# Altium footprint library thermostat.PcbLib: 95 footprints (part 1 of 6)
Each footprint in its own frame and in the unit in brackets; x right, y up, seen from the top. Pads: shape width x height; smd on the part's side, far side on the other; paste and mask are expansions set on the pad; w line width, h text height; cw(c..) or ccw(c..) is an arc to the next point about the centre after c.
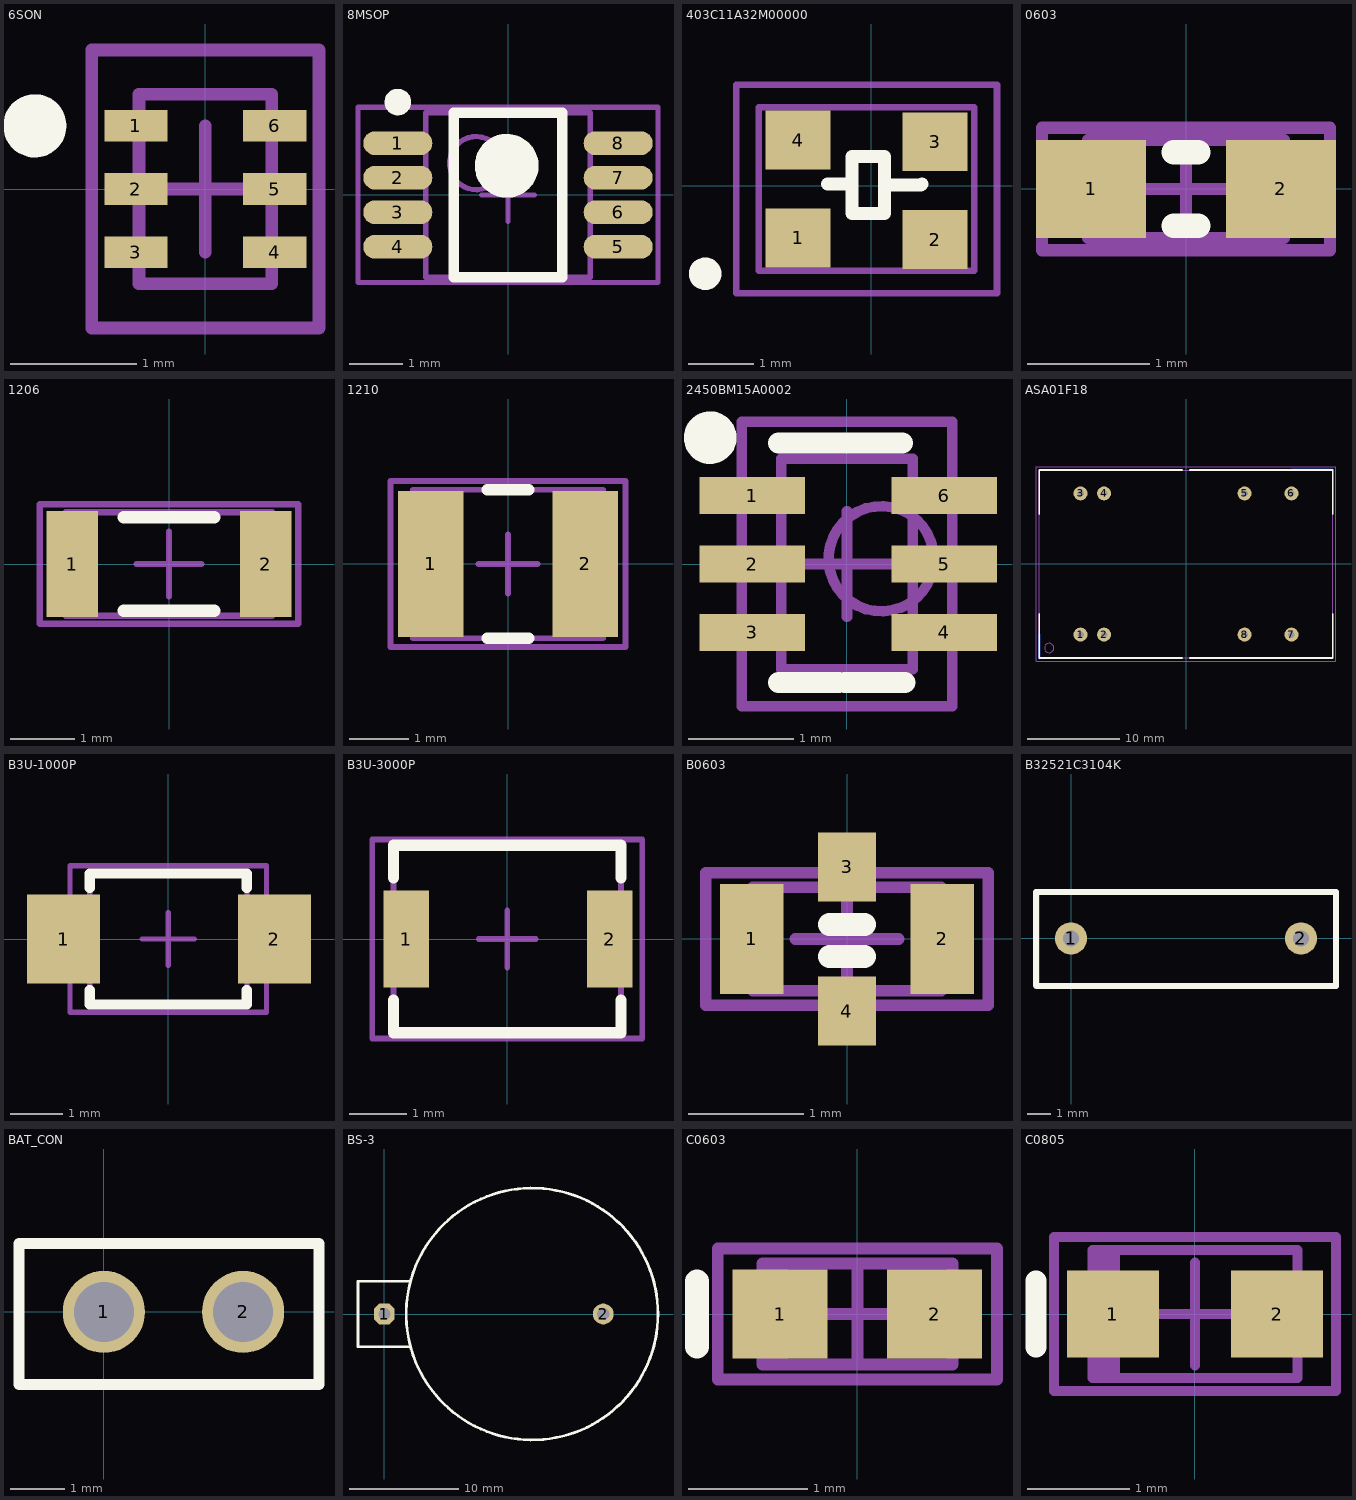
[diagram p0: the footprints below, top view; thin cyan lines are the x and y axes]

## 6SON [mm] "IC DCDC CONV STP-DN SYNC LP 6SON"
height 0.6
pads (6):
  rect 0.5x0.25 smd: 1(-0.55,0.5) 2(-0.55,0) 3(-0.55,-0.5) 4(0.55,-0.5) 5(0.55,0) 6(0.55,0.5)
Top Overlay:
  circle w0.25: c-1.35,0.5 r0.125
Mechanical 13:
  lines w0.1: -0.525,-0.75 -0.525,0.75 0.525,0.75 0.525,-0.75 -0.525,-0.75
Mechanical 15:
  lines w0.1: -0.5,0 0.5,0 ; 0,-0.5 0,0.5 ; -0.9,-1.1 -0.9,1.1 0.9,1.1 0.9,-1.1 -0.9,-1.1
3D body: height 0.6, standoff 0.1, extent -0.525,-0.75 0.525,0.75

## 8MSOP [mm] "MSOP, 8-Leads, Body 3,1x3,1mm (max), Pitch 0,65mm, IPC High Density"
height 1.1
pads (8):
  oval 1.3x0.45 smd: 1(-2.075,0.975) 2(-2.075,0.325) 3(-2.075,-0.325) 4(-2.075,-0.975) 5(2.075,-0.975) 6(2.075,-0.325) 7(2.075,0.325) 8(2.075,0.975)
Top Overlay:
  circle w0.25: c-2.075,1.75 r0.125
  circle w0.6: c-0.025,0.55 r0.3
  lines w0.2: -1.025,-1.55 -1.025,1.55 1.025,1.55 1.025,-1.55 -1.025,-1.55
Mechanical 13:
  circle w0.1: c-0.6,0.6 r0.5
  lines w0.1: -1.55,-1.55 -1.55,1.55 1.55,1.55 1.55,-1.55 -1.55,-1.55
Mechanical 15:
  lines w0.1: -0.5,0 0.5,0 ; 0,-0.5 0,0.5 ; -2.825,-1.65 -2.825,1.65 2.825,1.65 2.825,-1.65 -2.825,-1.65
3D body: height 1.1, standoff 0.1, extent -1.55,-1.55 1.55,1.55

## 403C11A32M00000 [mm] "CRYSTAL 32MHZ 10PF SMD"
height 0.8
pads (4):
  rect 1x0.9 smd: 1(-1.125,-0.8) 2(0.975,-0.825) 3(0.975,0.675) 4(-1.125,0.7)
Top Overlay:
  circle w0.25: c-2.55,-1.35 r0.125
  lines w0.2: -0.675,0.025 -0.325,0.025 ; 0.2,0.013 0.763,0.013 0.775,0.025 ; -0.3,-0.425 0.2,-0.425 0.2,0.45 -0.3,0.45 -0.3,-0.425
Mechanical 13:
  lines w0.1: -1.725,-1.3 1.575,-1.3 1.575,1.2 -1.725,1.2 -1.725,-1.3
Mechanical 15:
  lines w0.1: -2.075,-1.65 -2.075,1.55 1.925,1.55 1.925,-1.65 -2.075,-1.65
3D body: height 0.85, standoff 0.1, extent -1.7,-1.225 1.525,1.15

## 0603 [mm] "0603, 2-Leads, Body 1,6x0,8mm, IPC High Density"
height 0.5
pads (2):
  rect 0.9x0.8 smd: 1(-0.775,0) 2(0.775,0)
Top Overlay:
  lines w0.2: -0.1,-0.3 0.1,-0.3 ; -0.1,0.3 0.1,0.3
Mechanical 13:
  lines w0.1: -0.8,-0.4 0.8,-0.4 0.8,0.4 -0.8,0.4 -0.8,-0.4
Mechanical 15:
  lines w0.1: -0.4,0 0.4,0 ; 0,-0.4 0,0.4 ; -1.175,-0.5 1.175,-0.5 1.175,0.5 -1.175,0.5 -1.175,-0.5
3D body: height 0.5, standoff 0, extent -0.8,-0.4 0.8,0.4

## 1206 [mm] "1206, 2-Leads, Body 3,2x1,6mm, IPC High Density"
height 0.5
pads (2):
  rect 0.8x1.65 smd: 1(-1.5,0) 2(1.5,0)
Top Overlay:
  lines w0.2: -0.7,-0.725 0.7,-0.725 ; -0.7,0.725 0.7,0.725
Mechanical 13:
  lines w0.1: -1.6,-0.8 1.6,-0.8 1.6,0.8 -1.6,0.8 -1.6,-0.8
Mechanical 15:
  lines w0.1: -0.5,0 0.5,0 ; 0,-0.5 0,0.5 ; -2,-0.925 2,-0.925 2,0.925 -2,0.925 -2,-0.925
3D body: height 0.5, standoff 0, extent -1.6,-0.8 1.6,0.8

## 1210 [mm]
height 1.6
pads (2):
  rect 1.1x2.45 smd: 1(-1.3,0) 2(1.3,0)
Top Overlay:
  lines w0.2: -0.35,-1.25 0.35,-1.25 ; -0.35,1.25 0.35,1.25
Mechanical 13:
  lines w0.1: -1.6,-1.25 -1.6,1.25 1.6,1.25 1.6,-1.25 -1.6,-1.25
Mechanical 15:
  lines w0.1: -0.5,0 0.5,0 ; 0,-0.5 0,0.5 ; -1.975,-1.4 -1.975,1.4 1.975,1.4 1.975,-1.4 -1.975,-1.4
3D body: height 1.6, standoff 0, extent -1.6,-1.25 1.6,1.25

## 2450BM15A0002 [mm]
height 0.7
pads (6):
  rect 1x0.35 smd: 1(-0.9,0.65) 2(-0.9,0) 3(-0.9,-0.65) 4(0.925,-0.65) 5(0.925,0) 6(0.925,0.65)
Top Overlay:
  circle w0.25: c-1.3,1.2 r0.125
  lines w0.2: -0.65,-1.125 -0.075,-1.125 ; -0.65,1.15 -0.075,1.15 ; -0.05,1.15 0.525,1.15 ; -0.025,-1.125 0.55,-1.125
Mechanical 13:
  circle w0.1: c0.325,0.05 r0.5
  lines w0.1: -0.625,-1 -0.625,1 0.625,1 0.625,-1 -0.625,-1
Mechanical 15:
  lines w0.1: -0.5,0 0.5,0 ; 0,-0.5 0,0.5 ; -1,-1.35 -1,1.35 1,1.35 1,-1.35 -1,-1.35
3D body: height 0.7, standoff 0.1, extent -0.625,-1 0.625,1

## ASA01F18 [mm]
height 10.16
pads (8):
  round 1.524 hole 0.7: 1(-11.425,-7.65) 2(-8.875,-7.65) 3(-11.425,7.65) 4(-8.875,7.65) 5(6.35,7.65) 6(11.425,7.65) 7(11.425,-7.65) 8(6.35,-7.65)
Bottom Layer:
  lines w0.254: -15.9,-10.2 -15.9,-7.65 ; 11.425,10.2 15.875,10.2
Top Overlay:
  lines w0.2: -15.9,-5.425 -15.9,-10.2 -0.425,-10.2 ; -15.9,5.425 -15.9,10.2 -0.425,10.2 ; 0.425,-10.2 15.9,-10.2 15.9,-5.425 ; 0.425,10.2 15.9,10.2 15.9,5.425
Mechanical 13:
  circle w0.1: c-14.825,-9.1 r0.5
  lines w0.1: -15.875,-10.16 15.875,-10.16 15.875,10.16 -15.875,10.16 -15.875,-10.16
Mechanical 15:
  lines w0.1: -16.25,-10.55 16.25,-10.55 16.25,10.55 -16.25,10.55 -16.25,-10.55
3D body: height 10.16, standoff 0.1, extent -15.875,-10.16 15.875,10.16

## B3U-1000P [mm]
height 1.6
pads (2):
  rect 1.4x1.7 smd: 1(-2,0) 2(2.025,0)
Top Overlay:
  lines w0.2: -1.5,-0.975 -1.5,-1.25 1.5,-1.25 1.5,-0.975 ; -1.5,0.975 -1.5,1.25 1.5,1.25 1.5,0.975
Mechanical 13:
  lines w0.1: -1.5,-1.25 1.5,-1.25 1.5,1.25 -1.5,1.25 -1.5,-1.25
Mechanical 15:
  lines w0.1: -0.5,0 0.5,0 ; 0,-0.5 0,0.5 ; -1.875,-1.4 1.875,-1.4 1.875,1.4 -1.875,1.4 -1.875,-1.4
3D body: height 1.6, standoff 0, extent -1.5,-1.25 1.5,1.25

## B3U-3000P [mm] "Button, 2-Leads, Body 4,0x3,2mm, IPC High Density"
height 1.2
pads (2):
  rect 0.8x1.7 smd: 1(-1.775,0) 2(1.8,0)
Top Overlay:
  lines w0.2: -2,-1.075 -2,-1.65 2,-1.65 2,-1.075 ; -2,1.075 -2,1.65 2,1.65 2,1.075
Mechanical 13:
  lines w0.1: -2,-1.6 -2,1.6 2,1.6 2,-1.6 -2,-1.6
Mechanical 15:
  lines w0.1: -0.5,0 0.5,0 ; 0,-0.5 0,0.5 ; -2.375,-1.75 -2.375,1.75 2.375,1.75 2.375,-1.75 -2.375,-1.75
3D body: height 1.2, standoff 0, extent -2,-1.6 2,1.6

## B0603 [mm]
height 0.6
pads (4):
  rect 0.55x0.95 smd: 1(-0.825,0) 2(0.825,0)
  rect 0.5x0.6 smd: 3(0,0.625) 4(0,-0.625)
Top Overlay:
  lines w0.2: -0.15,-0.15 0.15,-0.15 ; -0.15,0.125 0.15,0.125
Mechanical 13:
  lines w0.1: -0.815,-0.45 0.815,-0.45 0.815,0.45 -0.815,0.45 -0.815,-0.45
Mechanical 15:
  lines w0.1: -0.45,0 0.45,0 ; 0,-0.45 0,0.45 ; -1.225,-0.575 1.225,-0.575 1.225,0.575 -1.225,0.575 -1.225,-0.575
3D body: height 0.6, standoff 0, extent -0.815,-0.45 0.815,0.45

## B32521C3104K [mm] "CAP FILM 0.1UF 250VDC RADIAL"
height 7
pads (2):
  round 1.4 hole 0.7: 1(0,0) 2(10,0)
Top Overlay:
  lines w0.254: -1.525,-2.05 -1.5,-2.075 11.525,-2.075 11.525,2.025 -1.525,2.025 -1.525,-2.05
Mechanical 15:
  lines w0.254: 11.525,-0.05 11.525,-2.075 0,-2.075 -1.5,-2.075 -1.5,-0.025 -1.5,2.025 0,2.025 11.525,2.025 11.525,0
3D body: height 7, standoff 0.1, extent -1.525,-2.05 11.55,2.025

## BAT_CON [mm]
pads (2):
  round 1.5 hole 1.1: 1(0,0) 2(2.54,0)
Top Overlay:
  lines w0.2: -1.55,-1.325 3.925,-1.325 3.925,0 3.925,1.25 -1.55,1.25 -1.55,-1.325

## BS-3 [mm] "Lithium battery CR2032 holder"
pads (2):
  oct 1.9x1.9 hole 1.1: 1(0,0)
  round 1.9 hole 1.1: 2(20,0)
Top Overlay:
  circle w0.254: c13.5,0 r11.5
  lines w0.254: 2.4,-3 -2.4,-3 -2.4,3 2.4,3
3D body: height 6.75, standoff 0, extent 2.116,-11.552 25.025,11.402
3D body: height 6, standoff 2, extent -2.4,-3 2.4,3

## C0603 [mm]
height 1.2
pads (2):
  rect 0.8x0.75 smd: 1(-0.65,0) 2(0.65,0)
Top Overlay:
  lines w0.2: -1.35,-0.275 -1.35,0.275
Mechanical 13:
  rectangle: -0.8,-0.425 -0.585,0.425
  lines w0.1: -0.8,-0.425 0.8,-0.425 0.8,0.425 -0.8,0.425 -0.8,-0.425
Mechanical 15:
  lines w0.1: -0.425,0 0.425,0 ; 0,-0.425 0,0.425 ; -1.175,-0.55 1.175,-0.55 1.175,0.55 -1.175,0.55 -1.175,-0.55
3D body: height 1.2, standoff 0, extent -0.8,-0.425 0.8,0.425

## C0805 [mm] "Molded Capacitor, 2-Leads, Body 2,0x1,3mm, IPC High Density"
height 1.1
pads (2):
  rect 0.9x0.85 smd: 1(-0.8,0) 2(0.8,0)
Top Overlay:
  lines w0.2: -1.55,-0.325 -1.55,0.325
Mechanical 13:
  rectangle: -1,-0.625 -0.731,0.625
  lines w0.1: -1,-0.625 -1,0.625 1,0.625 1,-0.625 -1,-0.625
Mechanical 15:
  lines w0.1: -0.5,0 0.5,0 ; 0,-0.5 0,0.5 ; -1.375,-0.75 -1.375,0.75 1.375,0.75 1.375,-0.75 -1.375,-0.75
3D body: height 1.1, standoff 0, extent -1,-0.625 1,0.625